# EAGLE library part TRIODE-DIREKT (library 1A-meinLib)
Direktgeheizte Triode
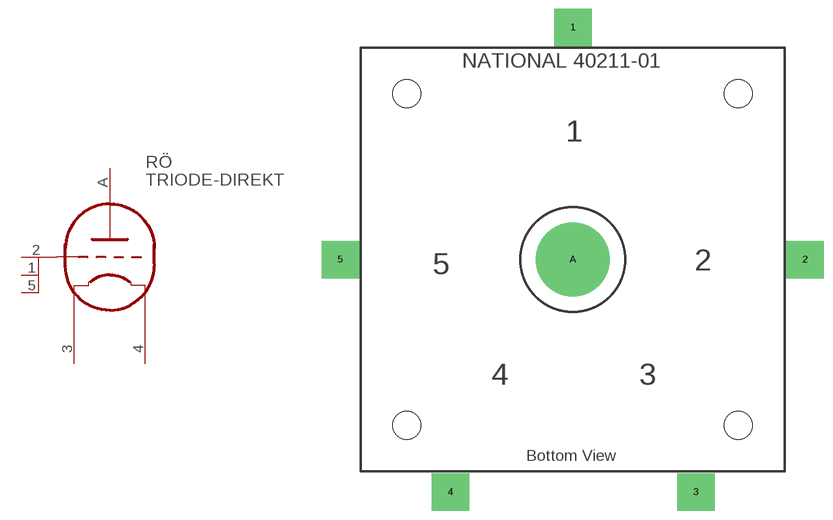
[diagram p97: symbol with the pads of TUBE-SOCKET_40211-01; footprint TUBE-SOCKET_40211-01]

Designator prefix RÖ

## TRIODE-DIREKT40211-01  [TUBE-SOCKET_40211-01]
1  G1-2
2  G1-1
3  F1
4  F2
5  G1-3
A  A

## Footprint TUBE-SOCKET_40211-01 (pad centres in mm)
Tube Socket 40211-01, 5pol, National Elektronics
drill 1.27 pad 6.452 square: 1 0,40.005; 2 40.005,0; 3 21.209,-40.069; 4 -21.082,-40.069; 5 -40.005,0
drill 1.4 pad 12.7 round: A 0,0
hole 4.826 at -28.575,28.575
hole 4.826 at 28.512,28.575
hole 4.826 at -28.575,-28.575
hole 4.826 at 28.512,-28.575